# EAGLE library part TPS62111 (library texas-instruments)
SYNCHRONOUS STEP-DOWN CONVERTER 17V, 1.5A
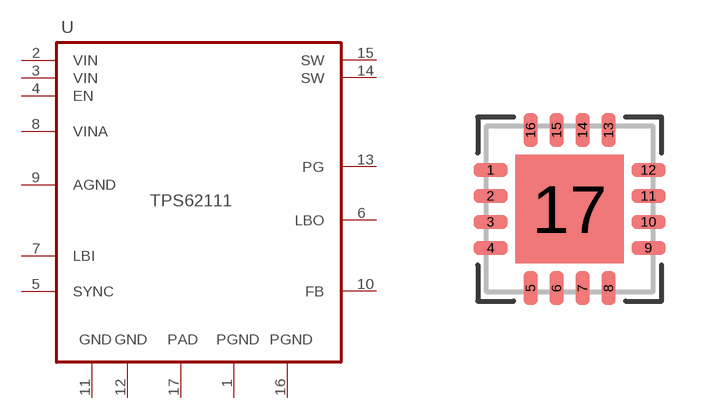
[diagram p21: symbol with the pads of VQFN16-RSA; footprint VQFN16-RSA]

Designator prefix U

## TPS62111 (DIGIKEY: 296-20670-2-ND; P1I: o)  [VQFN16-RSA]
1  PGND  in
2  VIN  in
3  VIN  in
4  EN  in
5  SYNC  in
6  LBO  out
7  LBI  in
8  VINA  in
9  AGND  in
10  FB  in
11  GND  in
12  GND  in
13  PG  out
14  SW  out
15  SW  out
16  PGND  in
17  PAD  in

## Footprint VQFN16-RSA (pad centres in mm)
VQFN 16 RSA (S-PVQFN-N16), body 4 x 4 mm, pitch 0.65 mm
smd 0.85 x 0.35: 1 -1.975,0.975; 2 -1.975,0.325; 3 -1.975,-0.325; 4 -1.975,-0.975; 9 1.975,-0.975; 10 1.975,-0.325; 11 1.975,0.325; 12 1.975,0.975
smd 0.35 x 0.85: 5 -0.975,-1.975; 6 -0.325,-1.975; 7 0.325,-1.975; 8 0.975,-1.975; 13 0.975,1.975; 14 0.325,1.975; 15 -0.325,1.975; 16 -0.975,1.975
smd 2.7 x 2.7: 17 0,0